# Altium schematic symbol library Power-LDO-TPMIC5504-3.3YM5.SchLib: 1 symbol
Pins are listed as number, name and electrical type; pins without a type are passive.

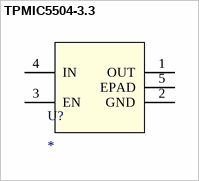
[diagram p0: symbol TPMIC5504-3.3]

## TPMIC5504-3.3
designator U?
pins: 1 OUT, 2 GND (power), 3 EN, 4 IN, 5 EPAD